# Altium footprint library MiCS.PcbLib: 1 footprints
Each footprint in its own frame and in the unit in brackets; x right, y up, seen from the top. Pads: shape width x height; smd on the part's side, far side on the other; paste and mask are expansions set on the pad; w line width, h text height; cw(c..) or ccw(c..) is an arc to the next point about the centre after c.
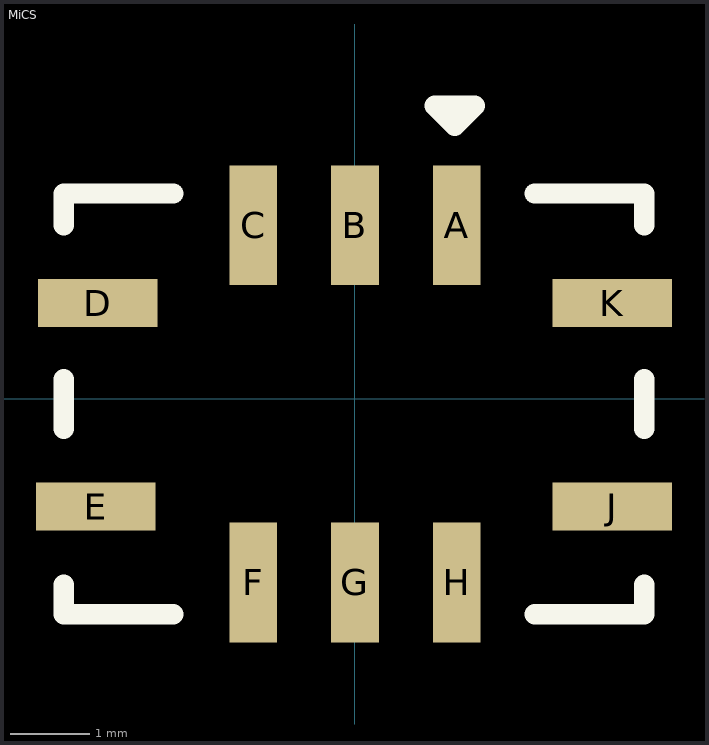
[diagram p0: the footprint, top view; thin cyan lines are the x and y axes]

## MiCS [mm] "MiCS-4514, MiCS-5524, MiCS-5914"
height 2
pads (10):
  rect 0.6x1.5 smd: A(1.275,2.175) B(0,2.175) C(-1.275,2.175) F(-1.275,-2.3) G(0,-2.3) H(1.275,-2.3)
  rect 1.5x0.6 smd: D(-3.225,1.2) E(-3.25,-1.35) J(3.225,-1.35) K(3.225,1.2)
Top Overlay:
  lines w0.254: -3.65,-0.375 -3.65,0.25 ; -2.275,-2.7 -3.65,-2.7 -3.65,-2.325 ; -2.275,2.575 -3.65,2.575 -3.65,2.175 ; 2.25,-2.7 3.625,-2.7 3.625,-2.325 ; 2.25,2.575 3.625,2.575 3.625,2.175 ; 3.625,-0.375 3.625,0.25 ; -3.65,-2.325 -3.65,-2.325 ; -3.65,2.175 -3.65,2.175 ; 1,3.675 1.5,3.675 1.25,3.425 1,3.675
3D body "User Library-MICS-4514.step": height 1.6, standoff -0.01, extent -3.503,-2.566 3.497,2.434